# Altium integrated library HW_pcb_design_14_3_2024.IntLib: 7 symbols
Pins are listed as number, name and electrical type; pins without a type are passive.

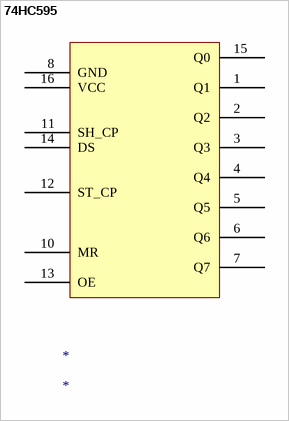
[diagram p0: symbol 74HC595]

## 74HC595
designator *
footprint SOIC127P1030X265-16N (SOIC, 16-Leads, Body 10.30x7.50mm, Pitch 1.27mm, IPC Medium Density)
footprint Genaral DIP16
pins: 1 Q1, 2 Q2, 3 Q3, 4 Q4, 5 Q5, 6 Q6, 7 Q7, 8 GND, 10 MR, 11 SH_CP, 12 ST_CP, 13 OE, 14 DS, 15 Q0, 16 VCC


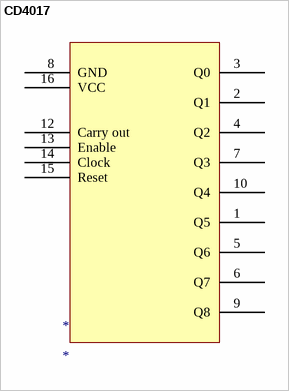
[diagram p1: symbol CD4017]

## CD4017
designator *
footprint SOIC127P1030X265-16N (SOIC, 16-Leads, Body 10.30x7.50mm, Pitch 1.27mm, IPC Medium Density)
footprint Genaral DIP16
pins: 1 Q5, 2 Q1, 3 Q0, 4 Q2, 5 Q6, 6 Q7, 7 Q3, 8 GND, 9 Q8, 10 Q4, 12 Carry out, 13 Enable, 14 Clock, 15 Reset, 16 VCC


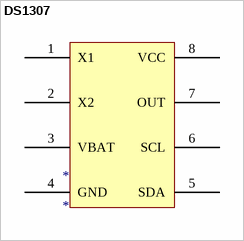
[diagram p2: symbol DS1307]

## DS1307
designator *
footprint General 8 DIP
footprint SOIC127P1030X265-8N (SOIC, 8-Leads, Body 5.13x3.95mm, Pitch 1.27mm, IPC Medium Density)
pins: 1 X1, 2 X2, 3 VBAT, 4 GND, 5 SDA, 6 SCL, 7 OUT, 8 VCC


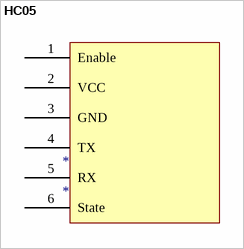
[diagram p3: symbol HC05]

## HC05
designator *
footprint HC05
pins: 1 Enable, 2 VCC, 3 GND, 4 TX, 5 RX, 6 State


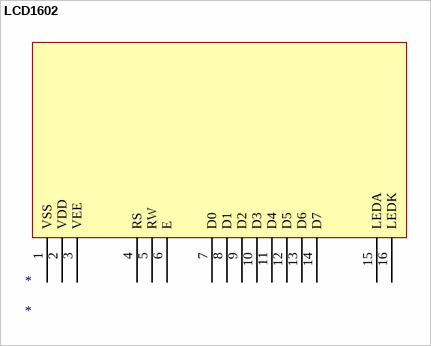
[diagram p4: symbol LCD1602]

## LCD1602
designator *
footprint LCD1602
pins: 1 VSS, 2 VDD, 3 VEE, 4 RS, 5 RW, 6 E, 7 D0, 8 D1, 9 D2, 10 D3, 11 D4, 12 D5, 13 D6, 14 D7, 15 LEDA, 16 LEDK


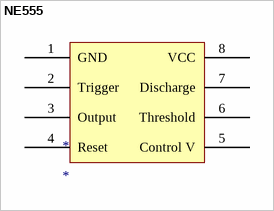
[diagram p5: symbol NE555]

## NE555
designator *
footprint SOIC127P1030X265-8N (SOIC, 8-Leads, Body 5.13x3.95mm, Pitch 1.27mm, IPC Medium Density)
footprint General 8 DIP
pins: 1 GND, 2 Trigger, 3 Output, 4 Reset, 5 Control V, 6 Threshold, 7 Discharge, 8 VCC


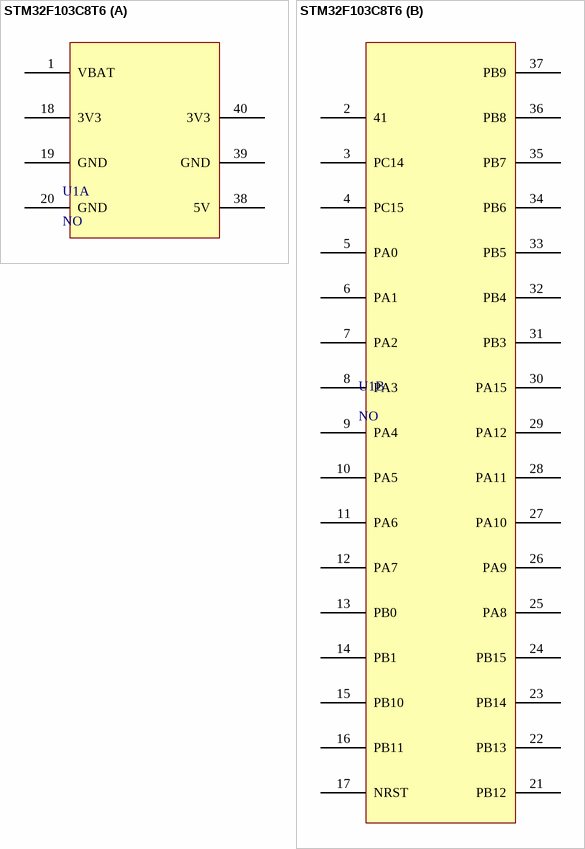
[diagram p6: symbol STM32F103C8T6]

## STM32F103C8T6
designator U1, comment NO
blue pills
footprint STM32F103C8T6 (Footprint not found)
footprint STM32F103C8T6 (GG DI PLS DUNG DOC O DAY)
part A pins: 1 VBAT, 18 3V3, 19 GND, 20 GND, 38 5V, 39 GND, 40 3V3
part B pins: 2 41, 3 PC14, 4 PC15, 5 PA0, 6 PA1, 7 PA2, 8 PA3, 9 PA4, 10 PA5, 11 PA6, 12 PA7, 13 PB0, 14 PB1, 15 PB10, 16 PB11, 17 NRST, 21 PB12, 22 PB13, 23 PB14, 24 PB15, 25 PA8, 26 PA9, 27 PA10, 28 PA11, 29 PA12, 30 PA15, 31 PB3, 32 PB4, 33 PB5, 34 PB6, 35 PB7, 36 PB8, 37 PB9